# Altium schematic symbol library ATTINY1617.Schlib: 1 symbol
Pins are listed as number, name and electrical type; pins without a type are passive.

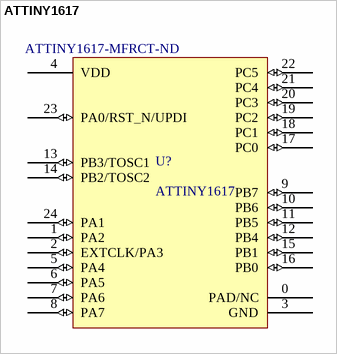
[diagram p0: symbol ATTINY1617]

## ATTINY1617
designator U?  Supplier Part Number 1: ATTINY1617-MFRCT-ND
Supplier 1: Digi-Key
pins: 0 PAD/NC, 1 PA2 (io), 2 EXTCLK/PA3 (io), 3 GND (power), 4 VDD (power), 5 PA4 (io), 6 PA5 (io), 7 PA6 (io), 8 PA7 (io), 9 PB7 (io), 10 PB6 (io), 11 PB5 (io), 12 PB4 (io), 13 PB3/TOSC1 (io), 14 PB2/TOSC2 (io), 15 PB1 (io), 16 PB0 (io), 17 PC0 (io), 18 PC1 (io), 19 PC2 (io), 20 PC3 (io), 21 PC4 (io), 22 PC5 (io), 23 PA0/RST_N/UPDI (io), 24 PA1 (io)